# Altium schematic symbol library TPS2559.SchLib: 1 symbol
Pins are listed as number, name and electrical type; pins without a type are passive.

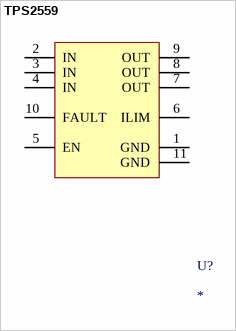
[diagram p0: symbol TPS2559]

## TPS2559
designator U?
pins: 1 GND, 2 IN, 3 IN, 4 IN, 5 EN, 6 ILIM, 7 OUT, 8 OUT, 9 OUT, 10 FAULT, 11 GND